# Altium schematic symbol library Instrumentational_Amp.SchLib: 1 symbol
Pins are listed as number, name and electrical type; pins without a type are passive.

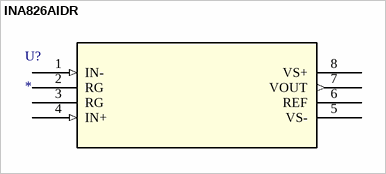
[diagram p0: symbol INA826AIDR]

## INA826AIDR
designator U?
Imported; Manufacturer: Texas Instruments; Manufacturer_Part_Number: INA826AIDR; Built_By: EMA_UL_Team; C: Copyright (C) 2015 Accelerated Designs. All rights reserved; Vendor: Texas Instruments; Value: Value; Type: Type; RefDes: RefDes
footprint D8-M
pins: 1 IN- (in), 2 RG, 3 RG, 4 IN+ (in), 5 VS- (power), 6 REF, 7 VOUT (out), 8 VS+ (power)